# Altium footprint library Altium_Jack.PcbLib: 5 footprints
Each footprint in its own frame and in the unit in brackets; x right, y up, seen from the top. Pads: shape width x height; smd on the part's side, far side on the other; paste and mask are expansions set on the pad; w line width, h text height; cw(c..) or ccw(c..) is an arc to the next point about the centre after c.
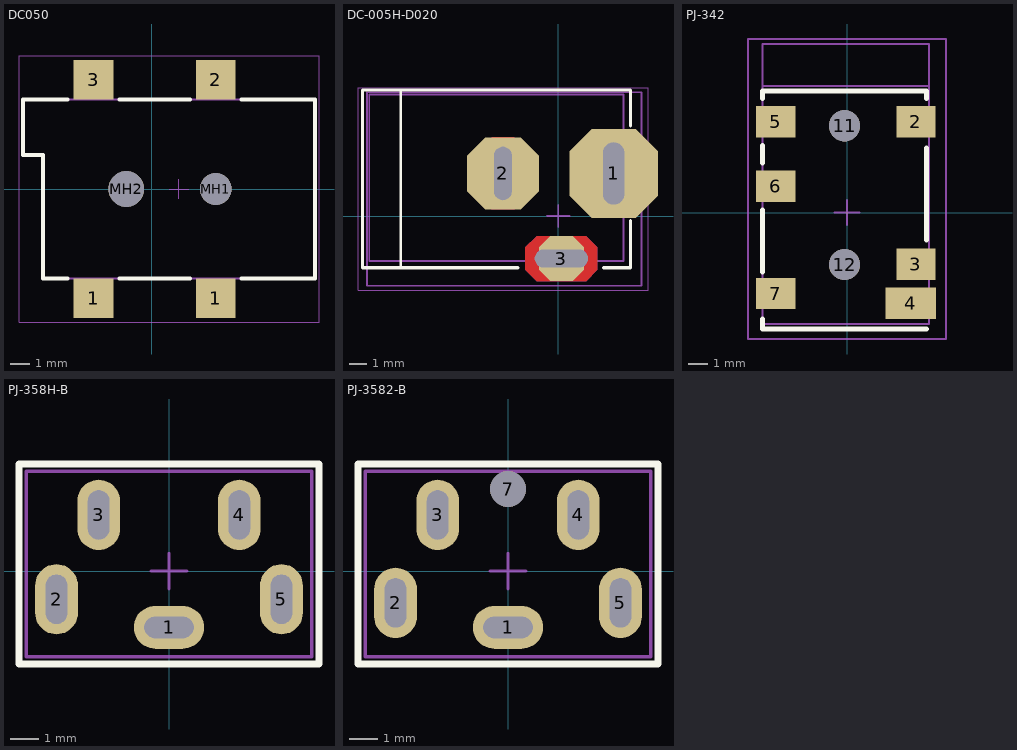
[diagram p0: the footprints below, top view; thin cyan lines are the x and y axes]

## DC050 [mm]
pads (6):
  rect 2x2 smd: 1(-2.92,-5.5) 1(3.23,-5.5) 2(3.23,5.5) 3(-2.92,5.5)
  round 1.6 hole 1.6 unplated: MH1(3.23,0)
  round 1.8 hole 1.8 unplated: MH2(-1.27,0)
Top Overlay:
  lines w0.2: -4.22,-4.5 -5.47,-4.5 -5.47,1.7 -6.47,1.7 -6.47,4.5 -4.22,4.5 ; -1.62,-4.5 1.93,-4.5 ; -1.62,4.5 1.93,4.5 ; 4.53,-4.5 8.23,-4.5 8.23,4.5 4.53,4.5
Top Designator:
  text ".Designator" at 1.88,-7.498 h1.5
Top Component Outline:
  lines w0.1: -3.67,-4.5 -3.67,-6.25 -2.17,-6.25 -2.17,-4.5 ; -3.67,4.5 -3.67,6.25 -2.17,6.25 -2.17,4.5 ; 2.48,-4.5 2.48,-6.25 3.98,-6.25 3.98,-4.5 ; 2.48,4.5 2.48,6.25 3.98,6.25 3.98,4.5 ; -6.47,1.7 -5.47,1.7 -5.47,-4.5 8.23,-4.5 8.23,4.5 -6.47,4.5 -6.47,1.7
Top 3D Body:
  lines w0.1: -3.67,-4.5 -3.67,-6.25 -2.17,-6.25 -2.17,-4.5 ; -3.67,4.5 -3.67,6.25 -2.17,6.25 -2.17,4.5 ; 2.48,-4.5 2.48,-6.25 3.98,-6.25 3.98,-4.5 ; 2.48,4.5 2.48,6.25 3.98,6.25 3.98,4.5 ; -6.47,1.7 -6.47,4.5 8.23,4.5 8.23,-4.5 -5.47,-4.5 -5.47,1.7 -6.47,1.7
Top Courtyard:
  lines w0.05: 0.88,0 1.88,0 ; 1.38,-0.5 1.38,0.5 ; -6.67,-6.7 -6.67,6.7 8.43,6.7 8.43,-6.7 -6.67,-6.7
3D body "694106106102.stp": height 11.05, standoff -1.15, extent -6.47,-6.25 8.23,6.25

## DC-005H-D020 [mm] "DC-005H-D020"
height 5.08
pads (3):
  oct 5x5 hole 1.2 slot 3.5 at 90 deg: 1(3.125,2.4)
  oct 4.064x4.064 hole 1 slot 3 at 90 deg: 2(-3.125,2.4)
  oct 2.54x2.54 hole 1 slot 3 at 0 deg: 3(0.175,-2.4)
Top Layer:
  region: 1.855,0.535 2.49,-0.1 3.76,-0.1 4.395,0.535 4.395,4.265 3.76,4.9 2.49,4.9 1.855,4.265
  region: -4.395,1.003 -3.76,0.368 -2.49,0.368 -1.855,1.003 -1.855,3.797 -2.49,4.432 -3.76,4.432 -4.395,3.797
  region: -1.222,-3.67 -1.857,-3.035 -1.857,-1.765 -1.222,-1.13 1.572,-1.13 2.207,-1.765 2.207,-3.035 1.572,-3.67
Bottom Layer:
  region: 1.855,0.535 2.49,-0.1 3.76,-0.1 4.395,0.535 4.395,4.265 3.76,4.9 2.49,4.9 1.855,4.265
  region: -4.395,1.003 -3.76,0.368 -2.49,0.368 -1.855,1.003 -1.855,3.797 -2.49,4.432 -3.76,4.432 -4.395,3.797
  region: -1.222,-3.67 -1.857,-3.035 -1.857,-1.765 -1.222,-1.13 1.572,-1.13 2.207,-1.765 2.207,-3.035 1.572,-3.67
Top Overlay:
  lines w0.127: -8.89,-2.921 -8.89,7.112
  lines w0.178: -2.286,-2.921 -11.049,-2.921 -11.049,7.112 4.064,7.112 4.064,5.08 ; 2.54,-2.921 4.064,-2.921 4.064,-0.254
Top Designator:
  text ".Designator" at -0.5,7.498 h1.5
Top Component Outline:
  lines w0.1: -10.795,-3.937 -10.795,6.985 4.699,6.985 4.699,-3.937 -10.795,-3.937
Top 3D Body:
  lines w0.1: -10.668,-2.54 3.683,-2.54 3.683,6.858 -10.668,6.858 -10.668,-2.54
Top Courtyard:
  lines w0.05: -11.303,-4.191 -11.303,7.239 5.08,7.239 5.08,-4.191 -11.303,-4.191
  lines w0.102: -0.635,0 0.635,0 ; 0,-0.635 0,0.635
3D body "DC-005.STEP": height 11, standoff -4.39, extent -10.667,-2.554 3.633,6.846

## PJ-342 [mm]
pads (8):
  rect 2x1.6 smd: 2(3.523,4.65) 3(3.523,-2.65) 5(-3.65,4.65) 6(-3.65,1.35) 7(-3.65,-4.15)
  rect 2.6x1.6 smd: 4(3.269,-4.65)
  round 1.6 hole 1.6: 11(-0.127,4.445) 12(-0.127,-2.667)
Top Overlay:
  lines w0.254: -4.318,-5.461 -4.318,-5.969 4.064,-5.969 ; -4.318,-3.048 -4.318,0.127 ; -4.318,2.54 -4.318,3.429 ; -4.318,5.842 -4.318,6.223 4.064,6.223 4.064,5.842 ; 4.064,-1.397 4.064,3.302
Mechanical 1:
  lines w0.102: -4.318,6.477 4.191,6.477 ; -4.318,-5.715 -4.318,8.636 4.191,8.636 4.191,-5.715 -4.318,-5.715
  text "Board cutout" at -2.708,6.858 h0.51
Top Courtyard:
  lines w0.102: -0.635,0 0.635,0 ; 0,-0.635 0,0.635 ; -5.08,-6.477 -5.08,8.89 5.08,8.89 5.08,-6.477 -5.08,-6.477
3D body "PJ311D_WPos.STEP": height 4.85, standoff -0.65, extent -4.309,-5.626 4.191,8.674

## PJ-358H-B [mm] "PJ-358H-B"
pads (5):
  oval 2.5x1.524 hole 0.762 slot 1.75 at 0 deg: 1(0,-2)
  oval 1.524x2.5 hole 0.762 slot 1.75 at 90 deg: 2(-4,-1) 3(-2.5,2) 4(2.5,2) 5(4,-1)
Top Overlay:
  lines w0.254: -5.334,-3.302 5.334,-3.302 5.334,3.81 -5.334,3.81 -5.334,-3.302
Mechanical 1:
  lines w0.127: -5.08,-3.048 5.08,-3.048 5.08,3.556 -5.08,3.556 -5.08,-3.048
Top Designator:
  text ".Designator" at -5.998,-0.4 h1.2
Top Courtyard:
  lines w0.102: -0.635,0 0.635,0 ; 0,-0.635 0,0.635
3D body "pj-358h-b.stp": height 15, standoff -3, extent -5,-2.46 5,3.54

## PJ-3582-B [mm]
pads (6):
  oval 2.5x1.524 hole 0.762 slot 1.75 at 0 deg: 1(0,-2)
  oval 1.524x2.5 hole 0.762 slot 1.75 at 90 deg: 2(-4,-1.127) 3(-2.5,2) 4(2.5,2) 5(4,-1.127)
  round 1.27 hole 1.27: 7(0,2.921)
Top Overlay:
  lines w0.254: -5.334,-3.302 -5.334,3.81 5.334,3.81 5.334,-3.302 -5.334,-3.302
Mechanical 1:
  lines w0.127: -5.08,-3.048 -5.08,3.556 5.08,3.556 5.08,-3.048 -5.08,-3.048
Top Designator:
  text ".Designator" at -5.998,-0.4 h1.2
Top Courtyard:
  lines w0.102: -0.635,0 0.635,0 ; 0,-0.635 0,0.635
3D body "pj-3582-b.stp": height 15, standoff -3, extent -5,-2.669 5,3.431